# EAGLE library part ATMEGA3250/6450 (library atmel-avr)
MICROCONTROLLER
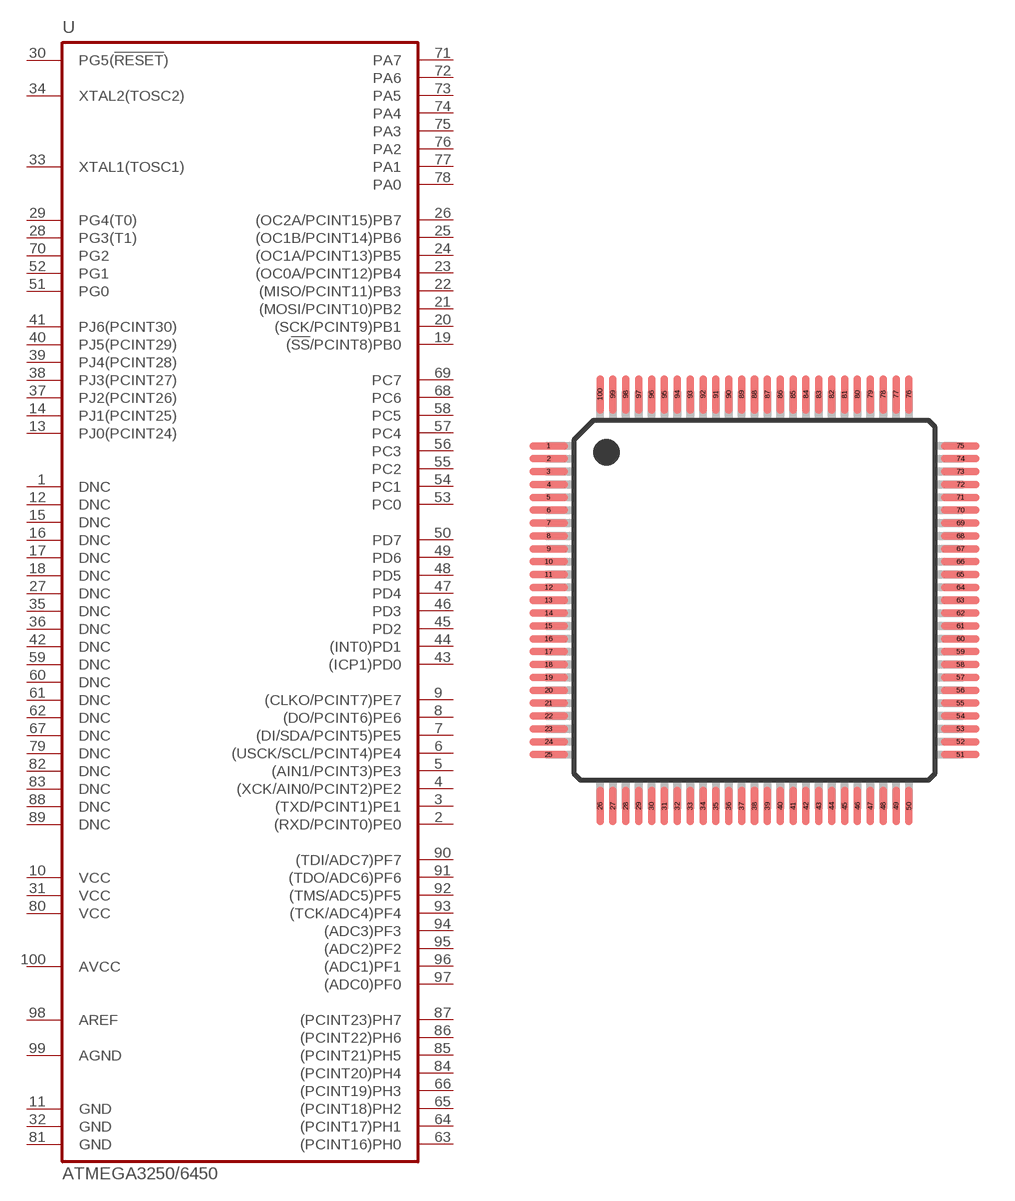
[diagram p3: symbol with the pads of TQFP100A; footprint TQFP100A]

Designator prefix U

## ATMEGA3250/6450-A  [TQFP100A]
1  DNC  nc
2  (RXD/PCINT0)PE0
3  (TXD/PCINT1)PE1
4  (XCK/AIN0/PCINT2)PE2
5  (AIN1/PCINT3)PE3
6  (USCK/SCL/PCINT4)PE4
7  (DI/SDA/PCINT5)PE5
8  (DO/PCINT6)PE6
9  (CLKO/PCINT7)PE7
10  VCC  pwr
11  GND  pwr
12  DNC  nc
13  PJ0(PCINT24)
14  PJ1(PCINT25)
15  DNC  nc
16  DNC  nc
17  DNC  nc
18  DNC  nc
19  (!SS!/PCINT8)PB0
20  (SCK/PCINT9)PB1
21  (MOSI/PCINT10)PB2
22  (MISO/PCINT11)PB3
23  (OC0A/PCINT12)PB4
24  (OC1A/PCINT13)PB5
25  (OC1B/PCINT14)PB6
26  (OC2A/PCINT15)PB7
27  DNC  nc
28  PG3(T1)
29  PG4(T0)
30  PG5(!RESET!)  in
31  VCC  pwr
32  GND  pwr
33  XTAL1(TOSC1)  pas
34  XTAL2(TOSC2)  pas
35  DNC  nc
36  DNC  nc
37  PJ2(PCINT26)
38  PJ3(PCINT27)
39  PJ4(PCINT28)
40  PJ5(PCINT29)
41  PJ6(PCINT30)
42  DNC  nc
43  (ICP1)PD0
44  (INT0)PD1
45  PD2
46  PD3
47  PD4
48  PD5
49  PD6
50  PD7
51  PG0
52  PG1
53  PC0
54  PC1
55  PC2
56  PC3
57  PC4
58  PC5
59  DNC  nc
60  DNC  nc
61  DNC  nc
62  DNC  nc
63  (PCINT16)PH0
64  (PCINT17)PH1
65  (PCINT18)PH2
66  (PCINT19)PH3
67  DNC  nc
68  PC6
69  PC7
70  PG2
71  PA7
72  PA6
73  PA5
74  PA4
75  PA3
76  PA2
77  PA1
78  PA0
79  DNC  nc
80  VCC  pwr
81  GND  pwr
82  DNC  nc
83  DNC  nc
84  (PCINT20)PH4
85  (PCINT21)PH5
86  (PCINT22)PH6
87  (PCINT23)PH7
88  DNC  nc
89  DNC  nc
90  (TDI/ADC7)PF7  in
91  (TDO/ADC6)PF6  out
92  (TMS/ADC5)PF5  in
93  (TCK/ADC4)PF4  in
94  (ADC3)PF3
95  (ADC2)PF2
96  (ADC1)PF1
97  (ADC0)PF0
98  AREF  pas
99  AGND  pwr
100  AVCC  pwr

## Footprint TQFP100A (pad centres in mm)
Thin Profile Plastic Quad Flat Package (TQFP) 100-lead, 14 x 14 mm Body Size, 1.0 mm Body Thickness, 0.5 mm Lead Pitch,
smd 1.5 x 0.3: 1 -8,6; 2 -8,5.5; 3 -8,5; 4 -8,4.5; 5 -8,4; 6 -8,3.5; 7 -8,3; 8 -8,2.5; 9 -8,2; 10 -8,1.5; 11 -8,1; 12 -8,0.5; 13 -8,0; 14 -8,-0.5; 15 -8,-1; 16 -8,-1.5; 17 -8,-2; 18 -8,-2.5; 19 -8,-3; 20 -8,-3.5; 21 -8,-4; 22 -8,-4.5; 23 -8,-5; 24 -8,-5.5; 25 -8,-6; 51 8,-6; 52 8,-5.5; 53 8,-5; 54 8,-4.5; 55 8,-4; 56 8,-3.5; 57 8,-3; 58 8,-2.5; 59 8,-2; 60 8,-1.5; 61 8,-1; 62 8,-0.5; 63 8,0; 64 8,0.5; 65 8,1; 66 8,1.5; 67 8,2; 68 8,2.5; 69 8,3; 70 8,3.5; 71 8,4; 72 8,4.5; 73 8,5; 74 8,5.5; 75 8,6
smd 0.3 x 1.5: 26 -6,-8; 27 -5.5,-8; 28 -5,-8; 29 -4.5,-8; 30 -4,-8; 31 -3.5,-8; 32 -3,-8; 33 -2.5,-8; 34 -2,-8; 35 -1.5,-8; 36 -1,-8; 37 -0.5,-8; 38 0,-8; 39 0.5,-8; 40 1,-8; 41 1.5,-8; 42 2,-8; 43 2.5,-8; 44 3,-8; 45 3.5,-8; 46 4,-8; 47 4.5,-8; 48 5,-8; 49 5.5,-8; 50 6,-8; 76 6,8; 77 5.5,8; 78 5,8; 79 4.5,8; 80 4,8; 81 3.5,8; 82 3,8; 83 2.5,8; 84 2,8; 85 1.5,8; 86 1,8; 87 0.5,8; 88 0,8; 89 -0.5,8; 90 -1,8; 91 -1.5,8; 92 -2,8; 93 -2.5,8; 94 -3,8; 95 -3.5,8; 96 -4,8; 97 -4.5,8; 98 -5,8; 99 -5.5,8; 100 -6,8